# Altium integrated library WE-PD (rev22a).IntLib: 359 symbols (part 2 of 6)
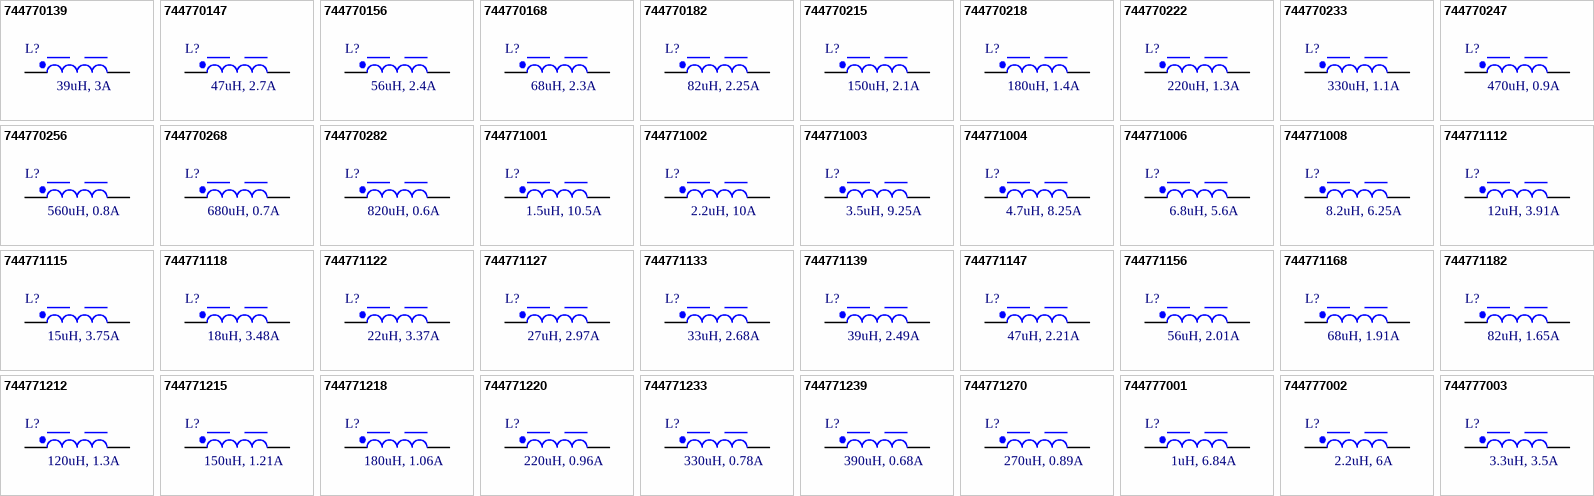
[diagram p9: symbols 744770139 to 744777003]

## 744771168
designator L?, comment 68uH, 1.91A
WE-PD SMT Power Inductor, size 1260, 68uH, 1.91A, 120mOhm; Manufacturer: Wurth Elektronik; Manufacturer Part Number: 744771168; Self Resonant Frequency: 7.6MHz; DC Resistance typ.: 96mOhm; Saturation Current: 2.19A; Type: Standard; ComponentLink1Description: Manufacturer; ComponentLink1URL: http://www.we-online.de; ComponentLink2Description: Datasheet; ComponentLink2URL: https://www.we-online.com/catalog/datasheet/744771168.pdf; Mounting Technology: SMT; Operating Temperature: -40 to +125degC; Packaging: Tape and Reel; DC Resistance max.: 120mOhm; Inductance: 68uH; Rated Current: 1.91A; Size: 1260; Height: 6mm; Length: 12mm; Width: 12mm
footprint WE-PD_1260
pins: 1, 2

## 744771182
designator L?, comment 82uH, 1.65A
WE-PD SMT Power Inductor, size 1260, 82uH, 1.65A, 140mOhm; Manufacturer: Wurth Elektronik; Manufacturer Part Number: 744771182; Self Resonant Frequency: 7.2MHz; DC Resistance typ.: 129mOhm; Saturation Current: 1.88A; Type: Standard; ComponentLink1Description: Manufacturer; ComponentLink1URL: http://www.we-online.de; ComponentLink2Description: Datasheet; ComponentLink2URL: https://www.we-online.com/catalog/datasheet/744771182.pdf; Mounting Technology: SMT; Operating Temperature: -40 to +125degC; Packaging: Tape and Reel; DC Resistance max.: 140mOhm; Inductance: 82uH; Rated Current: 1.65A; Size: 1260; Height: 6mm; Length: 12mm; Width: 12mm
footprint WE-PD_1260
pins: 1, 2

## 744771212
designator L?, comment 120uH, 1.3A
WE-PD SMT Power Inductor, size 1260, 120uH, 1.3A, 170mOhm; Manufacturer: Wurth Elektronik; Manufacturer Part Number: 744771212; Self Resonant Frequency: 5.2MHz; DC Resistance typ.: 159mOhm; Saturation Current: 1.56A; Type: Standard; ComponentLink1Description: Manufacturer; ComponentLink1URL: http://www.we-online.de; ComponentLink2Description: Datasheet; ComponentLink2URL: https://www.we-online.com/catalog/datasheet/744771212.pdf; Mounting Technology: SMT; Operating Temperature: -40 to +125degC; Packaging: Tape and Reel; DC Resistance max.: 170mOhm; Inductance: 120uH; Rated Current: 1.3A; Size: 1260; Height: 6mm; Length: 12mm; Width: 12mm
footprint WE-PD_1260
pins: 1, 2

## 744771215
designator L?, comment 150uH, 1.21A
WE-PD SMT Power Inductor, size 1260, 150uH, 1.21A, 230mOhm; Manufacturer: Wurth Elektronik; Manufacturer Part Number: 744771215; Self Resonant Frequency: 4.4MHz; DC Resistance typ.: 185mOhm; Saturation Current: 1.43A; Type: Standard; ComponentLink1Description: Manufacturer; ComponentLink1URL: http://www.we-online.de; ComponentLink2Description: Datasheet; ComponentLink2URL: https://www.we-online.com/catalog/datasheet/744771215.pdf; Mounting Technology: SMT; Operating Temperature: -40 to +125degC; Packaging: Tape and Reel; DC Resistance max.: 230mOhm; Inductance: 150uH; Rated Current: 1.21A; Size: 1260; Height: 6mm; Length: 12mm; Width: 12mm
footprint WE-PD_1260
pins: 1, 2

## 744771218
designator L?, comment 180uH, 1.06A
WE-PD SMT Power Inductor, size 1260, 180uH, 1.06A, 290mOhm; Manufacturer: Wurth Elektronik; Manufacturer Part Number: 744771218; Self Resonant Frequency: 4.1MHz; DC Resistance typ.: 242mOhm; Saturation Current: 1.24A; Type: Standard; ComponentLink1Description: Manufacturer; ComponentLink1URL: http://www.we-online.de; ComponentLink2Description: Datasheet; ComponentLink2URL: https://www.we-online.com/catalog/datasheet/744771218.pdf; Mounting Technology: SMT; Operating Temperature: -40 to +125degC; Packaging: Tape and Reel; DC Resistance max.: 290mOhm; Inductance: 180uH; Rated Current: 1.06A; Size: 1260; Height: 6mm; Length: 12mm; Width: 12mm
footprint WE-PD_1260
pins: 1, 2

## 744771220
designator L?, comment 220uH, 0.96A
WE-PD SMT Power Inductor, size 1260, 220uH, 0.96A, 400mOhm; Manufacturer: Wurth Elektronik; Manufacturer Part Number: 744771220; Self Resonant Frequency: 3.8MHz; DC Resistance typ.: 290mOhm; Saturation Current: 1.2A; Type: Standard; ComponentLink1Description: Manufacturer; ComponentLink1URL: http://www.we-online.de; ComponentLink2Description: Datasheet; ComponentLink2URL: https://www.we-online.com/catalog/datasheet/744771220.pdf; Mounting Technology: SMT; Operating Temperature: -40 to +125degC; Packaging: Tape and Reel; DC Resistance max.: 400mOhm; Inductance: 220uH; Rated Current: 0.96A; Size: 1260; Height: 6mm; Length: 12mm; Width: 12mm
footprint WE-PD_1260
pins: 1, 2

## 744771233
designator L?, comment 330uH, 0.78A
WE-PD SMT Power Inductor, size 1260, 330uH, 0.78A, 510mOhm; Manufacturer: Wurth Elektronik; Manufacturer Part Number: 744771233; Self Resonant Frequency: 3MHz; DC Resistance typ.: 442mOhm; Saturation Current: 0.97A; Type: Standard; ComponentLink1Description: Manufacturer; ComponentLink1URL: http://www.we-online.de; ComponentLink2Description: Datasheet; ComponentLink2URL: https://www.we-online.com/catalog/datasheet/744771233.pdf; Mounting Technology: SMT; Operating Temperature: -40 to +125degC; Packaging: Tape and Reel; DC Resistance max.: 510mOhm; Inductance: 330uH; Rated Current: 0.78A; Size: 1260; Height: 6mm; Length: 12mm; Width: 12mm
footprint WE-PD_1260
pins: 1, 2

## 744771239
designator L?, comment 390uH, 0.68A
WE-PD SMT Power Inductor, size 1260, 390uH, 0.68A, 690mOhm; Manufacturer: Wurth Elektronik; Manufacturer Part Number: 744771239; Self Resonant Frequency: 2.8MHz; DC Resistance typ.: 590mOhm; Saturation Current: 0.85A; Type: Standard; ComponentLink1Description: Manufacturer; ComponentLink1URL: http://www.we-online.de; ComponentLink2Description: Datasheet; ComponentLink2URL: https://www.we-online.com/catalog/datasheet/744771239.pdf; Mounting Technology: SMT; Operating Temperature: -40 to +125degC; Packaging: Tape and Reel; DC Resistance max.: 690mOhm; Inductance: 390uH; Rated Current: 0.68A; Size: 1260; Height: 6mm; Length: 12mm; Width: 12mm
footprint WE-PD_1260
pins: 1, 2

## 744771270
designator L?, comment 270uH, 0.89A
WE-PD SMT Power Inductor, size 1260, 270uH, 0.89A, 460mOhm; Manufacturer: Wurth Elektronik; Manufacturer Part Number: 744771270; Self Resonant Frequency: 3.4MHz; DC Resistance typ.: 338mOhm; Saturation Current: 1A; Type: Standard; ComponentLink1Description: Manufacturer; ComponentLink1URL: http://www.we-online.de; ComponentLink2Description: Datasheet; ComponentLink2URL: https://www.we-online.com/catalog/datasheet/744771270.pdf; Mounting Technology: SMT; Operating Temperature: -40 to +125degC; Packaging: Tape and Reel; DC Resistance max.: 460mOhm; Inductance: 270uH; Rated Current: 0.89A; Size: 1260; Height: 6mm; Length: 12mm; Width: 12mm
footprint WE-PD_1260
pins: 1, 2

## 744777001
designator L?, comment 1uH, 6.84A
WE-PD SMT Power Inductor, size 7345, 1uH, 6.84A, 10mOhm; Manufacturer: Wurth Elektronik; Manufacturer Part Number: 744777001; Self Resonant Frequency: 100MHz; DC Resistance typ.: 8.4mOhm; Saturation Current: 10.2A; Type: Standard; ComponentLink1Description: Manufacturer; ComponentLink1URL: http://www.we-online.de; ComponentLink2Description: Datasheet; ComponentLink2URL: https://www.we-online.com/catalog/datasheet/744777001.pdf; Mounting Technology: SMT; Operating Temperature: -40 to +125degC; Packaging: Tape and Reel; DC Resistance max.: 10mOhm; Inductance: 1uH; Rated Current: 6.84A; Size: 7345; Height: 4.5mm; Length: 7.3mm; Width: 7.3mm
footprint WE-PD_7345
pins: 1, 2

## 744777002
designator L?, comment 2.2uH, 6A
WE-PD SMT Power Inductor, size 7345, 2.2uH, 6A, 20mOhm; Manufacturer: Wurth Elektronik; Manufacturer Part Number: 744777002; Self Resonant Frequency: 60MHz; DC Resistance typ.: 13mOhm; Saturation Current: 6.5A; Type: Standard; ComponentLink1Description: Manufacturer; ComponentLink1URL: http://www.we-online.de; ComponentLink2Description: Datasheet; ComponentLink2URL: https://www.we-online.com/catalog/datasheet/744777002.pdf; Mounting Technology: SMT; Operating Temperature: -40 to +125degC; Packaging: Tape and Reel; DC Resistance max.: 20mOhm; Inductance: 2.2uH; Rated Current: 6A; Size: 7345; Height: 4.5mm; Length: 7.3mm; Width: 7.3mm
footprint WE-PD_7345
pins: 1, 2

## 744777003
designator L?, comment 3.3uH, 3.5A
WE-PD SMT Power Inductor, size 7345, 3.3uH, 3.5A, 30mOhm; Manufacturer: Wurth Elektronik; Manufacturer Part Number: 744777003; Self Resonant Frequency: 55MHz; DC Resistance typ.: 25mOhm; Saturation Current: 4.6A; Type: Standard; ComponentLink1Description: Manufacturer; ComponentLink1URL: http://www.we-online.de; ComponentLink2Description: Datasheet; ComponentLink2URL: https://www.we-online.com/catalog/datasheet/744777003.pdf; Mounting Technology: SMT; Operating Temperature: -40 to +125degC; Packaging: Tape and Reel; DC Resistance max.: 30mOhm; Inductance: 3.3uH; Rated Current: 3.5A; Size: 7345; Height: 4.5mm; Length: 7.3mm; Width: 7.3mm
footprint WE-PD_7345
pins: 1, 2

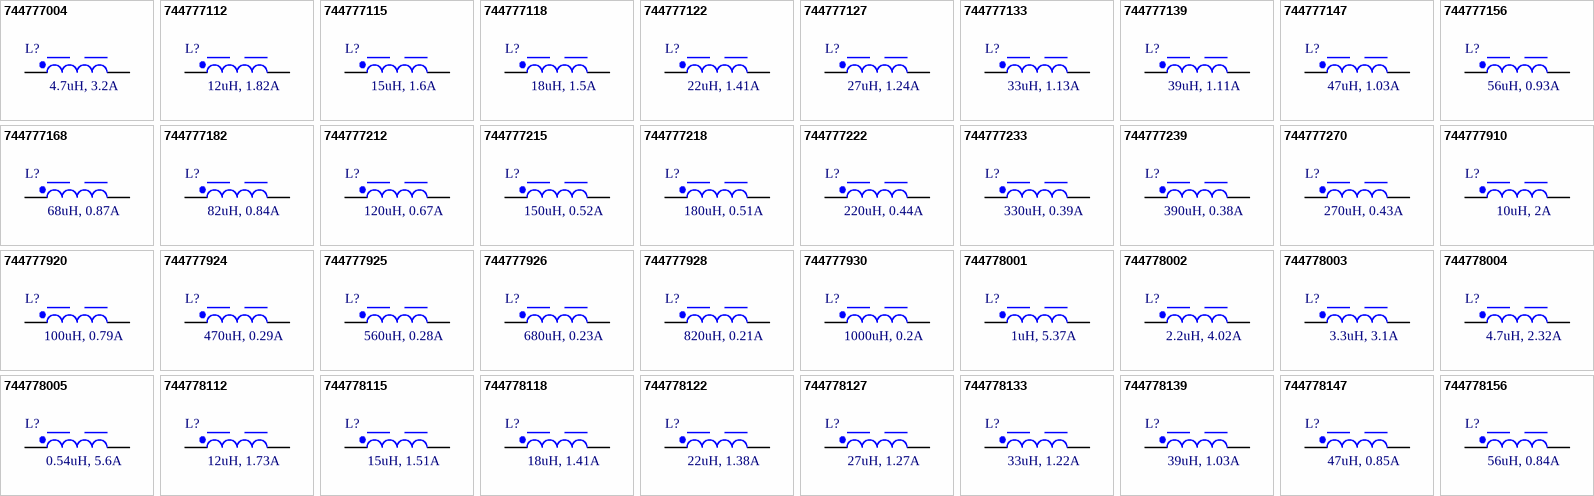
[diagram p2: symbols 744777004 to 744778156]

## 744777004
designator L?, comment 4.7uH, 3.2A
WE-PD SMT Power Inductor, size 7345, 4.7uH, 3.2A, 40mOhm; Manufacturer: Wurth Elektronik; Manufacturer Part Number: 744777004; Self Resonant Frequency: 37MHz; DC Resistance typ.: 25mOhm; Saturation Current: 4A; Type: Standard; ComponentLink1Description: Manufacturer; ComponentLink1URL: http://www.we-online.de; ComponentLink2Description: Datasheet; ComponentLink2URL: https://www.we-online.com/catalog/datasheet/744777004.pdf; Mounting Technology: SMT; Operating Temperature: -40 to +125degC; Packaging: Tape and Reel; DC Resistance max.: 40mOhm; Inductance: 4.7uH; Rated Current: 3.2A; Size: 7345; Height: 4.5mm; Length: 7.3mm; Width: 7.3mm
footprint WE-PD_7345
pins: 1, 2

## 744777112
designator L?, comment 12uH, 1.82A
WE-PD SMT Power Inductor, size 7345, 12uH, 1.82A, 58mOhm; Manufacturer: Wurth Elektronik; Manufacturer Part Number: 744777112; Self Resonant Frequency: 23MHz; DC Resistance typ.: 54mOhm; Saturation Current: 2.4A; Type: Standard; ComponentLink1Description: Manufacturer; ComponentLink1URL: http://www.we-online.de; ComponentLink2Description: Datasheet; ComponentLink2URL: https://www.we-online.com/catalog/datasheet/744777112.pdf; Mounting Technology: SMT; Operating Temperature: -40 to +125degC; Packaging: Tape and Reel; DC Resistance max.: 58mOhm; Inductance: 12uH; Rated Current: 1.82A; Size: 7345; Height: 4.5mm; Length: 7.3mm; Width: 7.3mm
footprint WE-PD_7345
pins: 1, 2

## 744777115
designator L?, comment 15uH, 1.6A
WE-PD SMT Power Inductor, size 7345, 15uH, 1.6A, 81mOhm; Manufacturer: Wurth Elektronik; Manufacturer Part Number: 744777115; Self Resonant Frequency: 19.5MHz; DC Resistance typ.: 70mOhm; Saturation Current: 2.2A; Type: Standard; ComponentLink1Description: Manufacturer; ComponentLink1URL: http://www.we-online.de; ComponentLink2Description: Datasheet; ComponentLink2URL: https://www.we-online.com/catalog/datasheet/744777115.pdf; Mounting Technology: SMT; Operating Temperature: -40 to +125degC; Packaging: Tape and Reel; DC Resistance max.: 81mOhm; Inductance: 15uH; Rated Current: 1.6A; Size: 7345; Height: 4.5mm; Length: 7.3mm; Width: 7.3mm
footprint WE-PD_7345
pins: 1, 2

## 744777118
designator L?, comment 18uH, 1.5A
WE-PD SMT Power Inductor, size 7345, 18uH, 1.5A, 91mOhm; Manufacturer: Wurth Elektronik; Manufacturer Part Number: 744777118; Self Resonant Frequency: 19MHz; DC Resistance typ.: 80mOhm; Saturation Current: 2.05A; Type: Standard; ComponentLink1Description: Manufacturer; ComponentLink1URL: http://www.we-online.de; ComponentLink2Description: Datasheet; ComponentLink2URL: https://www.we-online.com/catalog/datasheet/744777118.pdf; Mounting Technology: SMT; Operating Temperature: -40 to +125degC; Packaging: Tape and Reel; DC Resistance max.: 91mOhm; Inductance: 18uH; Rated Current: 1.5A; Size: 7345; Height: 4.5mm; Length: 7.3mm; Width: 7.3mm
footprint WE-PD_7345
pins: 1, 2

## 744777122
designator L?, comment 22uH, 1.41A
WE-PD SMT Power Inductor, size 7345, 22uH, 1.41A, 110mOhm; Manufacturer: Wurth Elektronik; Manufacturer Part Number: 744777122; Self Resonant Frequency: 17MHz; DC Resistance typ.: 90mOhm; Saturation Current: 1.7A; Type: Standard; ComponentLink1Description: Manufacturer; ComponentLink1URL: http://www.we-online.de; ComponentLink2Description: Datasheet; ComponentLink2URL: https://www.we-online.com/catalog/datasheet/744777122.pdf; Mounting Technology: SMT; Operating Temperature: -40 to +125degC; Packaging: Tape and Reel; DC Resistance max.: 110mOhm; Inductance: 22uH; Rated Current: 1.41A; Size: 7345; Height: 4.5mm; Length: 7.3mm; Width: 7.3mm
footprint WE-PD_7345
pins: 1, 2

## 744777127
designator L?, comment 27uH, 1.24A
WE-PD SMT Power Inductor, size 7345, 27uH, 1.24A, 150mOhm; Manufacturer: Wurth Elektronik; Manufacturer Part Number: 744777127; Self Resonant Frequency: 15MHz; DC Resistance typ.: 117mOhm; Saturation Current: 1.55A; Type: Standard; ComponentLink1Description: Manufacturer; ComponentLink1URL: http://www.we-online.de; ComponentLink2Description: Datasheet; ComponentLink2URL: https://www.we-online.com/catalog/datasheet/744777127.pdf; Mounting Technology: SMT; Operating Temperature: -40 to +125degC; Packaging: Tape and Reel; DC Resistance max.: 150mOhm; Inductance: 27uH; Rated Current: 1.24A; Size: 7345; Height: 4.5mm; Length: 7.3mm; Width: 7.3mm
footprint WE-PD_7345
pins: 1, 2

## 744777133
designator L?, comment 33uH, 1.13A
WE-PD SMT Power Inductor, size 7345, 33uH, 1.13A, 170mOhm; Manufacturer: Wurth Elektronik; Manufacturer Part Number: 744777133; Self Resonant Frequency: 13MHz; DC Resistance typ.: 140mOhm; Saturation Current: 1.4A; Type: Standard; ComponentLink1Description: Manufacturer; ComponentLink1URL: http://www.we-online.de; ComponentLink2Description: Datasheet; ComponentLink2URL: https://www.we-online.com/catalog/datasheet/744777133.pdf; Mounting Technology: SMT; Operating Temperature: -40 to +125degC; Packaging: Tape and Reel; DC Resistance max.: 170mOhm; Inductance: 33uH; Rated Current: 1.13A; Size: 7345; Height: 4.5mm; Length: 7.3mm; Width: 7.3mm
footprint WE-PD_7345
pins: 1, 2

## 744777139
designator L?, comment 39uH, 1.11A
WE-PD SMT Power Inductor, size 7345, 39uH, 1.11A, 230mOhm; Manufacturer: Wurth Elektronik; Manufacturer Part Number: 744777139; Self Resonant Frequency: 12MHz; DC Resistance typ.: 145mOhm; Saturation Current: 1.23A; Type: Standard; ComponentLink1Description: Manufacturer; ComponentLink1URL: http://www.we-online.de; ComponentLink2Description: Datasheet; ComponentLink2URL: https://www.we-online.com/catalog/datasheet/744777139.pdf; Mounting Technology: SMT; Operating Temperature: -40 to +125degC; Packaging: Tape and Reel; DC Resistance max.: 230mOhm; Inductance: 39uH; Rated Current: 1.11A; Size: 7345; Height: 4.5mm; Length: 7.3mm; Width: 7.3mm
footprint WE-PD_7345
pins: 1, 2

## 744777147
designator L?, comment 47uH, 1.03A
WE-PD SMT Power Inductor, size 7345, 47uH, 1.03A, 260mOhm; Manufacturer: Wurth Elektronik; Manufacturer Part Number: 744777147; Self Resonant Frequency: 10.5MHz; DC Resistance typ.: 170mOhm; Saturation Current: 1.1A; Type: Standard; ComponentLink1Description: Manufacturer; ComponentLink1URL: http://www.we-online.de; ComponentLink2Description: Datasheet; ComponentLink2URL: https://www.we-online.com/catalog/datasheet/744777147.pdf; Mounting Technology: SMT; Operating Temperature: -40 to +125degC; Packaging: Tape and Reel; DC Resistance max.: 260mOhm; Inductance: 47uH; Rated Current: 1.03A; Size: 7345; Height: 4.5mm; Length: 7.3mm; Width: 7.3mm
footprint WE-PD_7345
pins: 1, 2

## 744777156
designator L?, comment 56uH, 0.93A
WE-PD SMT Power Inductor, size 7345, 56uH, 0.93A, 350mOhm; Manufacturer: Wurth Elektronik; Manufacturer Part Number: 744777156; Self Resonant Frequency: 10MHz; DC Resistance typ.: 210mOhm; Saturation Current: 1.05A; Type: Standard; ComponentLink1Description: Manufacturer; ComponentLink1URL: http://www.we-online.de; ComponentLink2Description: Datasheet; ComponentLink2URL: https://www.we-online.com/catalog/datasheet/744777156.pdf; Mounting Technology: SMT; Operating Temperature: -40 to +125degC; Packaging: Tape and Reel; DC Resistance max.: 350mOhm; Inductance: 56uH; Rated Current: 0.93A; Size: 7345; Height: 4.5mm; Length: 7.3mm; Width: 7.3mm
footprint WE-PD_7345
pins: 1, 2

## 744777168
designator L?, comment 68uH, 0.87A
WE-PD SMT Power Inductor, size 7345, 68uH, 0.87A, 380mOhm; Manufacturer: Wurth Elektronik; Manufacturer Part Number: 744777168; Self Resonant Frequency: 9MHz; DC Resistance typ.: 240mOhm; Saturation Current: 0.95A; Type: Standard; ComponentLink1Description: Manufacturer; ComponentLink1URL: http://www.we-online.de; ComponentLink2Description: Datasheet; ComponentLink2URL: https://www.we-online.com/catalog/datasheet/744777168.pdf; Mounting Technology: SMT; Operating Temperature: -40 to +125degC; Packaging: Tape and Reel; DC Resistance max.: 380mOhm; Inductance: 68uH; Rated Current: 0.87A; Size: 7345; Height: 4.5mm; Length: 7.3mm; Width: 7.3mm
footprint WE-PD_7345
pins: 1, 2

## 744777182
designator L?, comment 82uH, 0.84A
WE-PD SMT Power Inductor, size 7345, 82uH, 0.84A, 430mOhm; Manufacturer: Wurth Elektronik; Manufacturer Part Number: 744777182; Self Resonant Frequency: 8MHz; DC Resistance typ.: 260mOhm; Saturation Current: 0.9A; Type: Standard; ComponentLink1Description: Manufacturer; ComponentLink1URL: http://www.we-online.de; ComponentLink2Description: Datasheet; ComponentLink2URL: https://www.we-online.com/catalog/datasheet/744777182.pdf; Mounting Technology: SMT; Operating Temperature: -40 to +125degC; Packaging: Tape and Reel; DC Resistance max.: 430mOhm; Inductance: 82uH; Rated Current: 0.84A; Size: 7345; Height: 4.5mm; Length: 7.3mm; Width: 7.3mm
footprint WE-PD_7345
pins: 1, 2

## 744777212
designator L?, comment 120uH, 0.67A
WE-PD SMT Power Inductor, size 7345, 120uH, 0.67A, 660mOhm; Manufacturer: Wurth Elektronik; Manufacturer Part Number: 744777212; Self Resonant Frequency: 6.7MHz; DC Resistance typ.: 400mOhm; Saturation Current: 0.7A; Type: Standard; ComponentLink1Description: Manufacturer; ComponentLink1URL: http://www.we-online.de; ComponentLink2Description: Datasheet; ComponentLink2URL: https://www.we-online.com/catalog/datasheet/744777212.pdf; Mounting Technology: SMT; Operating Temperature: -40 to +125degC; Packaging: Tape and Reel; DC Resistance max.: 660mOhm; Inductance: 120uH; Rated Current: 0.67A; Size: 7345; Height: 4.5mm; Length: 7.3mm; Width: 7.3mm
footprint WE-PD_7345
pins: 1, 2

## 744777215
designator L?, comment 150uH, 0.52A
WE-PD SMT Power Inductor, size 7345, 150uH, 0.52A, 880mOhm; Manufacturer: Wurth Elektronik; Manufacturer Part Number: 744777215; Self Resonant Frequency: 6MHz; DC Resistance typ.: 660mOhm; Saturation Current: 0.63A; Type: Standard; ComponentLink1Description: Manufacturer; ComponentLink1URL: http://www.we-online.de; ComponentLink2Description: Datasheet; ComponentLink2URL: https://www.we-online.com/catalog/datasheet/744777215.pdf; Mounting Technology: SMT; Operating Temperature: -40 to +125degC; Packaging: Tape and Reel; DC Resistance max.: 880mOhm; Inductance: 150uH; Rated Current: 0.52A; Size: 7345; Height: 4.5mm; Length: 7.3mm; Width: 7.3mm
footprint WE-PD_7345
pins: 1, 2

## 744777218
designator L?, comment 180uH, 0.51A
WE-PD SMT Power Inductor, size 7345, 180uH, 0.51A, 980mOhm; Manufacturer: Wurth Elektronik; Manufacturer Part Number: 744777218; Self Resonant Frequency: 5.3MHz; DC Resistance typ.: 680mOhm; Saturation Current: 0.56A; Type: Standard; ComponentLink1Description: Manufacturer; ComponentLink1URL: http://www.we-online.de; ComponentLink2Description: Datasheet; ComponentLink2URL: https://www.we-online.com/catalog/datasheet/744777218.pdf; Mounting Technology: SMT; Operating Temperature: -40 to +125degC; Packaging: Tape and Reel; DC Resistance max.: 980mOhm; Inductance: 180uH; Rated Current: 0.51A; Size: 7345; Height: 4.5mm; Length: 7.3mm; Width: 7.3mm
footprint WE-PD_7345
pins: 1, 2

## 744777222
designator L?, comment 220uH, 0.44A
WE-PD SMT Power Inductor, size 7345, 220uH, 0.44A, 1170mOhm; Manufacturer: Wurth Elektronik; Manufacturer Part Number: 744777222; Self Resonant Frequency: 5MHz; DC Resistance typ.: 920mOhm; Saturation Current: 0.54A; Type: Standard; ComponentLink1Description: Manufacturer; ComponentLink1URL: http://www.we-online.de; ComponentLink2Description: Datasheet; ComponentLink2URL: https://www.we-online.com/catalog/datasheet/744777222.pdf; Mounting Technology: SMT; Operating Temperature: -40 to +125degC; Packaging: Tape and Reel; DC Resistance max.: 1170mOhm; Inductance: 220uH; Rated Current: 0.44A; Size: 7345; Height: 4.5mm; Length: 7.3mm; Width: 7.3mm
footprint WE-PD_7345
pins: 1, 2

## 744777233
designator L?, comment 330uH, 0.39A
WE-PD SMT Power Inductor, size 7345, 330uH, 0.39A, 1860mOhm; Manufacturer: Wurth Elektronik; Manufacturer Part Number: 744777233; Self Resonant Frequency: 4MHz; DC Resistance typ.: 1150mOhm; Saturation Current: 0.45A; Type: Standard; ComponentLink1Description: Manufacturer; ComponentLink1URL: http://www.we-online.de; ComponentLink2Description: Datasheet; ComponentLink2URL: https://www.we-online.com/catalog/datasheet/744777233.pdf; Mounting Technology: SMT; Operating Temperature: -40 to +125degC; Packaging: Tape and Reel; DC Resistance max.: 1860mOhm; Inductance: 330uH; Rated Current: 0.39A; Size: 7345; Height: 4.5mm; Length: 7.3mm; Width: 7.3mm
footprint WE-PD_7345
pins: 1, 2

## 744777239
designator L?, comment 390uH, 0.38A
WE-PD SMT Power Inductor, size 7345, 390uH, 0.38A, 2850mOhm; Manufacturer: Wurth Elektronik; Manufacturer Part Number: 744777239; Self Resonant Frequency: 3.8MHz; DC Resistance typ.: 1250mOhm; Saturation Current: 0.42A; Type: Standard; ComponentLink1Description: Manufacturer; ComponentLink1URL: http://www.we-online.de; ComponentLink2Description: Datasheet; ComponentLink2URL: https://www.we-online.com/catalog/datasheet/744777239.pdf; Mounting Technology: SMT; Operating Temperature: -40 to +125degC; Packaging: Tape and Reel; DC Resistance max.: 2850mOhm; Inductance: 390uH; Rated Current: 0.38A; Size: 7345; Height: 4.5mm; Length: 7.3mm; Width: 7.3mm
footprint WE-PD_7345
pins: 1, 2

## 744777270
designator L?, comment 270uH, 0.43A
WE-PD SMT Power Inductor, size 7345, 270uH, 0.43A, 1640mOhm; Manufacturer: Wurth Elektronik; Manufacturer Part Number: 744777270; Self Resonant Frequency: 4.3MHz; DC Resistance typ.: 970mOhm; Saturation Current: 0.48A; Type: Standard; ComponentLink1Description: Manufacturer; ComponentLink1URL: http://www.we-online.de; ComponentLink2Description: Datasheet; ComponentLink2URL: https://www.we-online.com/catalog/datasheet/744777270.pdf; Mounting Technology: SMT; Operating Temperature: -40 to +125degC; Packaging: Tape and Reel; DC Resistance max.: 1640mOhm; Inductance: 270uH; Rated Current: 0.43A; Size: 7345; Height: 4.5mm; Length: 7.3mm; Width: 7.3mm
footprint WE-PD_7345
pins: 1, 2

## 744777910
designator L?, comment 10uH, 2A
WE-PD SMT Power Inductor, size 7345R, 10uH, 2A, 49mOhm; Manufacturer: Wurth Elektronik; Manufacturer Part Number: 744777910; Self Resonant Frequency: 26MHz; DC Resistance typ.: 45mOhm; Saturation Current: 2.6A; Type: Robust; ComponentLink1Description: Manufacturer; ComponentLink1URL: http://www.we-online.de; ComponentLink2Description: Datasheet; ComponentLink2URL: https://www.we-online.com/catalog/datasheet/744777910.pdf; Mounting Technology: SMT; Operating Temperature: -40 to +125degC; Packaging: Tape and Reel; DC Resistance max.: 49mOhm; Inductance: 10uH; Rated Current: 2A; Size: 7345R; Height: 4.5mm; Length: 7.3mm; Width: 7.3mm
footprint WE-PD_7345R
pins: 1, 2

## 744777920
designator L?, comment 100uH, 0.79A
WE-PD SMT Power Inductor, size 7345R, 100uH, 0.79A, 380mOhm; Manufacturer: Wurth Elektronik; Manufacturer Part Number: 744777920; Self Resonant Frequency: 7.5MHz; DC Resistance typ.: 290mOhm; Saturation Current: 0.75A; Type: Robust; ComponentLink1Description: Manufacturer; ComponentLink1URL: http://www.we-online.de; ComponentLink2Description: Datasheet; ComponentLink2URL: https://www.we-online.com/catalog/datasheet/744777920.pdf; Mounting Technology: SMT; Operating Temperature: -40 to +125degC; Packaging: Tape and Reel; DC Resistance max.: 380mOhm; Inductance: 100uH; Rated Current: 0.79A; Size: 7345R; Height: 4.5mm; Length: 7.3mm; Width: 7.3mm
footprint WE-PD_7345R
pins: 1, 2

## 744777924
designator L?, comment 470uH, 0.29A
WE-PD SMT Power Inductor, size 7345R, 470uH, 0.29A, 3010mOhm; Manufacturer: Wurth Elektronik; Manufacturer Part Number: 744777924; Self Resonant Frequency: 3.2MHz; DC Resistance typ.: 1600mOhm; Saturation Current: 0.34A; Type: Robust; ComponentLink1Description: Manufacturer; ComponentLink1URL: http://www.we-online.de; ComponentLink2Description: Datasheet; ComponentLink2URL: https://www.we-online.com/catalog/datasheet/744777924.pdf; Mounting Technology: SMT; Operating Temperature: -40 to +125degC; Packaging: Tape and Reel; DC Resistance max.: 3010mOhm; Inductance: 470uH; Rated Current: 0.29A; Size: 7345R; Height: 4.5mm; Length: 7.3mm; Width: 7.3mm
footprint WE-PD_7345R
pins: 1, 2

## 744777925
designator L?, comment 560uH, 0.28A
WE-PD SMT Power Inductor, size 7345R, 560uH, 0.28A, 3620mOhm; Manufacturer: Wurth Elektronik; Manufacturer Part Number: 744777925; Self Resonant Frequency: 3MHz; DC Resistance typ.: 1720mOhm; Saturation Current: 0.31A; Type: Robust; ComponentLink1Description: Manufacturer; ComponentLink1URL: http://www.we-online.de; ComponentLink2Description: Datasheet; ComponentLink2URL: https://www.we-online.com/catalog/datasheet/744777925.pdf; Mounting Technology: SMT; Operating Temperature: -40 to +125degC; Packaging: Tape and Reel; DC Resistance max.: 3620mOhm; Inductance: 560uH; Rated Current: 0.28A; Size: 7345R; Height: 4.5mm; Length: 7.3mm; Width: 7.3mm
footprint WE-PD_7345R
pins: 1, 2

## 744777926
designator L?, comment 680uH, 0.23A
WE-PD SMT Power Inductor, size 7345R, 680uH, 0.23A, 4630mOhm; Manufacturer: Wurth Elektronik; Manufacturer Part Number: 744777926; Self Resonant Frequency: 2.7MHz; DC Resistance typ.: 2600mOhm; Saturation Current: 0.28A; Type: Robust; ComponentLink1Description: Manufacturer; ComponentLink1URL: http://www.we-online.de; ComponentLink2Description: Datasheet; ComponentLink2URL: https://www.we-online.com/catalog/datasheet/744777926.pdf; Mounting Technology: SMT; Operating Temperature: -40 to +125degC; Packaging: Tape and Reel; DC Resistance max.: 4630mOhm; Inductance: 680uH; Rated Current: 0.23A; Size: 7345R; Height: 4.5mm; Length: 7.3mm; Width: 7.3mm
footprint WE-PD_7345R
pins: 1, 2

## 744777928
designator L?, comment 820uH, 0.21A
WE-PD SMT Power Inductor, size 7345R, 820uH, 0.21A, 5200mOhm; Manufacturer: Wurth Elektronik; Manufacturer Part Number: 744777928; Self Resonant Frequency: 2.5MHz; DC Resistance typ.: 2960mOhm; Saturation Current: 0.26A; Type: Robust; ComponentLink1Description: Manufacturer; ComponentLink1URL: http://www.we-online.de; ComponentLink2Description: Datasheet; ComponentLink2URL: https://www.we-online.com/catalog/datasheet/744777928.pdf; Mounting Technology: SMT; Operating Temperature: -40 to +125degC; Packaging: Tape and Reel; DC Resistance max.: 5200mOhm; Inductance: 820uH; Rated Current: 0.21A; Size: 7345R; Height: 4.5mm; Length: 7.3mm; Width: 7.3mm
footprint WE-PD_7345R
pins: 1, 2

## 744777930
designator L?, comment 1000uH, 0.2A
WE-PD SMT Power Inductor, size 7345R, 1000uH, 0.2A, 6000mOhm; Manufacturer: Wurth Elektronik; Manufacturer Part Number: 744777930; Self Resonant Frequency: 2.2MHz; DC Resistance typ.: 3270mOhm; Saturation Current: 0.25A; Type: Robust; ComponentLink1Description: Manufacturer; ComponentLink1URL: http://www.we-online.de; ComponentLink2Description: Datasheet; ComponentLink2URL: https://www.we-online.com/catalog/datasheet/744777930.pdf; Mounting Technology: SMT; Operating Temperature: -40 to +125degC; Packaging: Tape and Reel; DC Resistance max.: 6000mOhm; Inductance: 1000uH; Rated Current: 0.2A; Size: 7345R; Height: 4.5mm; Length: 7.3mm; Width: 7.3mm
footprint WE-PD_7345R
pins: 1, 2

## 744778001
designator L?, comment 1uH, 5.37A
WE-PD SMT Power Inductor, size 7332, 1uH, 5.37A, 12mOhm; Manufacturer: Wurth Elektronik; Manufacturer Part Number: 744778001; Self Resonant Frequency: 115MHz; DC Resistance typ.: 9mOhm; Saturation Current: 6.4A; Type: Standard; ComponentLink1Description: Manufacturer; ComponentLink1URL: http://www.we-online.de; ComponentLink2Description: Datasheet; ComponentLink2URL: https://www.we-online.com/catalog/datasheet/744778001.pdf; Mounting Technology: SMT; Operating Temperature: -40 to +125degC; Packaging: Tape and Reel; DC Resistance max.: 12mOhm; Inductance: 1uH; Rated Current: 5.37A; Size: 7332; Height: 3.2mm; Length: 7.3mm; Width: 7.3mm
footprint WE-PD_7332
pins: 1, 2

## 744778002
designator L?, comment 2.2uH, 4.02A
WE-PD SMT Power Inductor, size 7332, 2.2uH, 4.02A, 20mOhm; Manufacturer: Wurth Elektronik; Manufacturer Part Number: 744778002; Self Resonant Frequency: 67MHz; DC Resistance typ.: 14mOhm; Saturation Current: 4.8A; Type: Standard; ComponentLink1Description: Manufacturer; ComponentLink1URL: http://www.we-online.de; ComponentLink2Description: Datasheet; ComponentLink2URL: https://www.we-online.com/catalog/datasheet/744778002.pdf; Mounting Technology: SMT; Operating Temperature: -40 to +125degC; Packaging: Tape and Reel; DC Resistance max.: 20mOhm; Inductance: 2.2uH; Rated Current: 4.02A; Size: 7332; Height: 3.2mm; Length: 7.3mm; Width: 7.3mm
footprint WE-PD_7332
pins: 1, 2

## 744778003
designator L?, comment 3.3uH, 3.1A
WE-PD SMT Power Inductor, size 7332, 3.3uH, 3.1A, 32mOhm; Manufacturer: Wurth Elektronik; Manufacturer Part Number: 744778003; Self Resonant Frequency: 61MHz; DC Resistance typ.: 24mOhm; Saturation Current: 4.1A; Type: Standard; ComponentLink1Description: Manufacturer; ComponentLink1URL: http://www.we-online.de; ComponentLink2Description: Datasheet; ComponentLink2URL: https://www.we-online.com/catalog/datasheet/744778003.pdf; Mounting Technology: SMT; Operating Temperature: -40 to +125degC; Packaging: Tape and Reel; DC Resistance max.: 32mOhm; Inductance: 3.3uH; Rated Current: 3.1A; Size: 7332; Height: 3.2mm; Length: 7.3mm; Width: 7.3mm
footprint WE-PD_7332
pins: 1, 2

## 744778004
designator L?, comment 4.7uH, 2.32A
WE-PD SMT Power Inductor, size 7332, 4.7uH, 2.32A, 60mOhm; Manufacturer: Wurth Elektronik; Manufacturer Part Number: 744778004; Self Resonant Frequency: 45MHz; DC Resistance typ.: 42mOhm; Saturation Current: 4.2A; Type: Standard; ComponentLink1Description: Manufacturer; ComponentLink1URL: http://www.we-online.de; ComponentLink2Description: Datasheet; ComponentLink2URL: https://www.we-online.com/catalog/datasheet/744778004.pdf; Mounting Technology: SMT; Operating Temperature: -40 to +125degC; Packaging: Tape and Reel; DC Resistance max.: 60mOhm; Inductance: 4.7uH; Rated Current: 2.32A; Size: 7332; Height: 3.2mm; Length: 7.3mm; Width: 7.3mm
footprint WE-PD_7332
pins: 1, 2

## 744778005
designator L?, comment 0.54uH, 5.6A
WE-PD SMT Power Inductor, size 7332, 0.54uH, 5.6A, 8.5mOhm; Manufacturer: Wurth Elektronik; Manufacturer Part Number: 744778005; Self Resonant Frequency: 155MHz; DC Resistance typ.: 7.2mOhm; Saturation Current: 9A; Type: Standard; ComponentLink1Description: Manufacturer; ComponentLink1URL: http://www.we-online.de; ComponentLink2Description: Datasheet; ComponentLink2URL: https://www.we-online.com/catalog/datasheet/744778005.pdf; Mounting Technology: SMT; Operating Temperature: -40 to +125degC; Packaging: Tape and Reel; DC Resistance max.: 8.5mOhm; Inductance: 0.54uH; Rated Current: 5.6A; Size: 7332; Height: 3.2mm; Length: 7.3mm; Width: 7.3mm
footprint WE-PD_7332
pins: 1, 2

## 744778112
designator L?, comment 12uH, 1.73A
WE-PD SMT Power Inductor, size 7332, 12uH, 1.73A, 98mOhm; Manufacturer: Wurth Elektronik; Manufacturer Part Number: 744778112; Self Resonant Frequency: 27MHz; DC Resistance typ.: 76mOhm; Saturation Current: 2.15A; Type: Standard; ComponentLink1Description: Manufacturer; ComponentLink1URL: http://www.we-online.de; ComponentLink2Description: Datasheet; ComponentLink2URL: https://www.we-online.com/catalog/datasheet/744778112.pdf; Mounting Technology: SMT; Operating Temperature: -40 to +125degC; Packaging: Tape and Reel; DC Resistance max.: 98mOhm; Inductance: 12uH; Rated Current: 1.73A; Size: 7332; Height: 3.2mm; Length: 7.3mm; Width: 7.3mm
footprint WE-PD_7332
pins: 1, 2

## 744778115
designator L?, comment 15uH, 1.51A
WE-PD SMT Power Inductor, size 7332, 15uH, 1.51A, 130mOhm; Manufacturer: Wurth Elektronik; Manufacturer Part Number: 744778115; Self Resonant Frequency: 26MHz; DC Resistance typ.: 100mOhm; Saturation Current: 1.75A; Type: Standard; ComponentLink1Description: Manufacturer; ComponentLink1URL: http://www.we-online.de; ComponentLink2Description: Datasheet; ComponentLink2URL: https://www.we-online.com/catalog/datasheet/744778115.pdf; Mounting Technology: SMT; Operating Temperature: -40 to +125degC; Packaging: Tape and Reel; DC Resistance max.: 130mOhm; Inductance: 15uH; Rated Current: 1.51A; Size: 7332; Height: 3.2mm; Length: 7.3mm; Width: 7.3mm
footprint WE-PD_7332
pins: 1, 2

## 744778118
designator L?, comment 18uH, 1.41A
WE-PD SMT Power Inductor, size 7332, 18uH, 1.41A, 140mOhm; Manufacturer: Wurth Elektronik; Manufacturer Part Number: 744778118; Self Resonant Frequency: 24MHz; DC Resistance typ.: 114mOhm; Saturation Current: 1.7A; Type: Standard; ComponentLink1Description: Manufacturer; ComponentLink1URL: http://www.we-online.de; ComponentLink2Description: Datasheet; ComponentLink2URL: https://www.we-online.com/catalog/datasheet/744778118.pdf; Mounting Technology: SMT; Operating Temperature: -40 to +125degC; Packaging: Tape and Reel; DC Resistance max.: 140mOhm; Inductance: 18uH; Rated Current: 1.41A; Size: 7332; Height: 3.2mm; Length: 7.3mm; Width: 7.3mm
footprint WE-PD_7332
pins: 1, 2

## 744778122
designator L?, comment 22uH, 1.38A
WE-PD SMT Power Inductor, size 7332, 22uH, 1.38A, 190mOhm; Manufacturer: Wurth Elektronik; Manufacturer Part Number: 744778122; Self Resonant Frequency: 20MHz; DC Resistance typ.: 119mOhm; Saturation Current: 1.4A; Type: Standard; ComponentLink1Description: Manufacturer; ComponentLink1URL: http://www.we-online.de; ComponentLink2Description: Datasheet; ComponentLink2URL: https://www.we-online.com/catalog/datasheet/744778122.pdf; Mounting Technology: SMT; Operating Temperature: -40 to +125degC; Packaging: Tape and Reel; DC Resistance max.: 190mOhm; Inductance: 22uH; Rated Current: 1.38A; Size: 7332; Height: 3.2mm; Length: 7.3mm; Width: 7.3mm
footprint WE-PD_7332
pins: 1, 2

## 744778127
designator L?, comment 27uH, 1.27A
WE-PD SMT Power Inductor, size 7332, 27uH, 1.27A, 240mOhm; Manufacturer: Wurth Elektronik; Manufacturer Part Number: 744778127; Self Resonant Frequency: 18MHz; DC Resistance typ.: 140mOhm; Saturation Current: 1.3A; Type: Standard; ComponentLink1Description: Manufacturer; ComponentLink1URL: http://www.we-online.de; ComponentLink2Description: Datasheet; ComponentLink2URL: https://www.we-online.com/catalog/datasheet/744778127.pdf; Mounting Technology: SMT; Operating Temperature: -40 to +125degC; Packaging: Tape and Reel; DC Resistance max.: 240mOhm; Inductance: 27uH; Rated Current: 1.27A; Size: 7332; Height: 3.2mm; Length: 7.3mm; Width: 7.3mm
footprint WE-PD_7332
pins: 1, 2

## 744778133
designator L?, comment 33uH, 1.22A
WE-PD SMT Power Inductor, size 7332, 33uH, 1.22A, 240mOhm; Manufacturer: Wurth Elektronik; Manufacturer Part Number: 744778133; Self Resonant Frequency: 16MHz; DC Resistance typ.: 153mOhm; Saturation Current: 1.15A; Type: Standard; ComponentLink1Description: Manufacturer; ComponentLink1URL: http://www.we-online.de; ComponentLink2Description: Datasheet; ComponentLink2URL: https://www.we-online.com/catalog/datasheet/744778133.pdf; Mounting Technology: SMT; Operating Temperature: -40 to +125degC; Packaging: Tape and Reel; DC Resistance max.: 240mOhm; Inductance: 33uH; Rated Current: 1.22A; Size: 7332; Height: 3.2mm; Length: 7.3mm; Width: 7.3mm
footprint WE-PD_7332
pins: 1, 2

## 744778139
designator L?, comment 39uH, 1.03A
WE-PD SMT Power Inductor, size 7332, 39uH, 1.03A, 320mOhm; Manufacturer: Wurth Elektronik; Manufacturer Part Number: 744778139; Self Resonant Frequency: 14MHz; DC Resistance typ.: 214mOhm; Saturation Current: 1.1A; Type: Standard; ComponentLink1Description: Manufacturer; ComponentLink1URL: http://www.we-online.de; ComponentLink2Description: Datasheet; ComponentLink2URL: https://www.we-online.com/catalog/datasheet/744778139.pdf; Mounting Technology: SMT; Operating Temperature: -40 to +125degC; Packaging: Tape and Reel; DC Resistance max.: 320mOhm; Inductance: 39uH; Rated Current: 1.03A; Size: 7332; Height: 3.2mm; Length: 7.3mm; Width: 7.3mm
footprint WE-PD_7332
pins: 1, 2

## 744778147
designator L?, comment 47uH, 0.85A
WE-PD SMT Power Inductor, size 7332, 47uH, 0.85A, 360mOhm; Manufacturer: Wurth Elektronik; Manufacturer Part Number: 744778147; Self Resonant Frequency: 13.5MHz; DC Resistance typ.: 315mOhm; Saturation Current: 1A; Type: Standard; ComponentLink1Description: Manufacturer; ComponentLink1URL: http://www.we-online.de; ComponentLink2Description: Datasheet; ComponentLink2URL: https://www.we-online.com/catalog/datasheet/744778147.pdf; Mounting Technology: SMT; Operating Temperature: -40 to +125degC; Packaging: Tape and Reel; DC Resistance max.: 360mOhm; Inductance: 47uH; Rated Current: 0.85A; Size: 7332; Height: 3.2mm; Length: 7.3mm; Width: 7.3mm
footprint WE-PD_7332
pins: 1, 2

## 744778156
designator L?, comment 56uH, 0.84A
WE-PD SMT Power Inductor, size 7332, 56uH, 0.84A, 470mOhm; Manufacturer: Wurth Elektronik; Manufacturer Part Number: 744778156; Self Resonant Frequency: 12.5MHz; DC Resistance typ.: 322mOhm; Saturation Current: 0.88A; Type: Standard; ComponentLink1Description: Manufacturer; ComponentLink1URL: http://www.we-online.de; ComponentLink2Description: Datasheet; ComponentLink2URL: https://www.we-online.com/catalog/datasheet/744778156.pdf; Mounting Technology: SMT; Operating Temperature: -40 to +125degC; Packaging: Tape and Reel; DC Resistance max.: 470mOhm; Inductance: 56uH; Rated Current: 0.84A; Size: 7332; Height: 3.2mm; Length: 7.3mm; Width: 7.3mm
footprint WE-PD_7332
pins: 1, 2

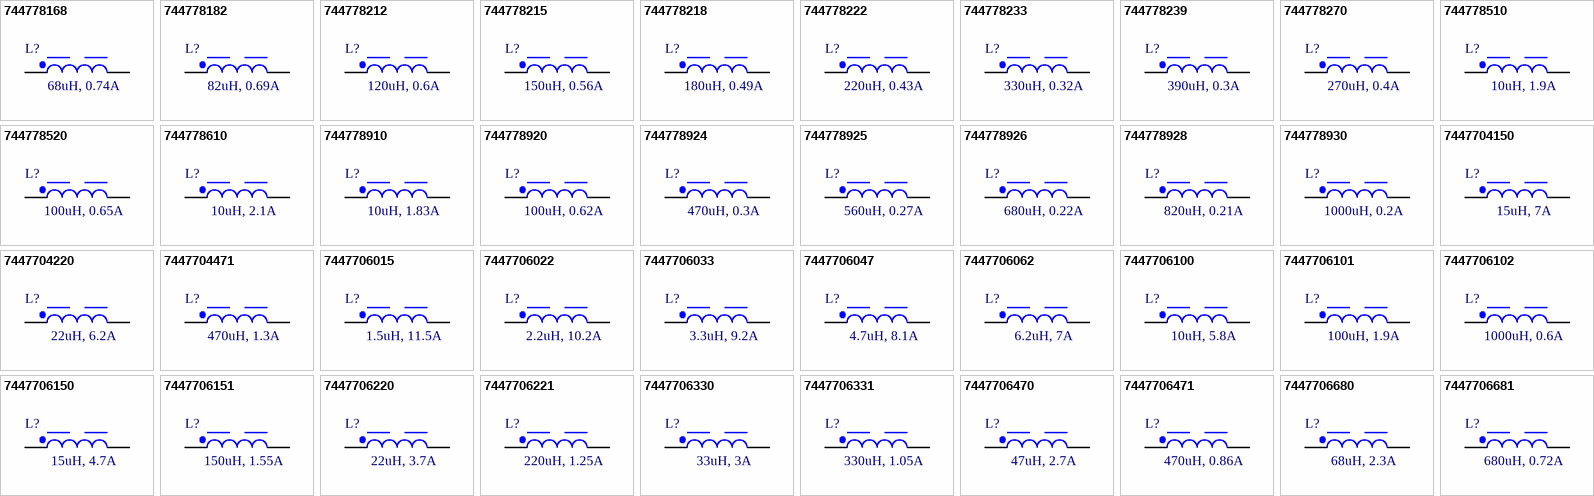
[diagram p3: symbols 744778168 to 7447706681]

## 744778168
designator L?, comment 68uH, 0.74A
WE-PD SMT Power Inductor, size 7332, 68uH, 0.74A, 520mOhm; Manufacturer: Wurth Elektronik; Manufacturer Part Number: 744778168; Self Resonant Frequency: 11.5MHz; DC Resistance typ.: 420mOhm; Saturation Current: 0.84A; Type: Standard; ComponentLink1Description: Manufacturer; ComponentLink1URL: http://www.we-online.de; ComponentLink2Description: Datasheet; ComponentLink2URL: https://www.we-online.com/catalog/datasheet/744778168.pdf; Mounting Technology: SMT; Operating Temperature: -40 to +125degC; Packaging: Tape and Reel; DC Resistance max.: 520mOhm; Inductance: 68uH; Rated Current: 0.74A; Size: 7332; Height: 3.2mm; Length: 7.3mm; Width: 7.3mm
footprint WE-PD_7332
pins: 1, 2

## 744778182
designator L?, comment 82uH, 0.69A
WE-PD SMT Power Inductor, size 7332, 82uH, 0.69A, 690mOhm; Manufacturer: Wurth Elektronik; Manufacturer Part Number: 744778182; Self Resonant Frequency: 9.8MHz; DC Resistance typ.: 480mOhm; Saturation Current: 0.78A; Type: Standard; ComponentLink1Description: Manufacturer; ComponentLink1URL: http://www.we-online.de; ComponentLink2Description: Datasheet; ComponentLink2URL: https://www.we-online.com/catalog/datasheet/744778182.pdf; Mounting Technology: SMT; Operating Temperature: -40 to +125degC; Packaging: Tape and Reel; DC Resistance max.: 690mOhm; Inductance: 82uH; Rated Current: 0.69A; Size: 7332; Height: 3.2mm; Length: 7.3mm; Width: 7.3mm
footprint WE-PD_7332
pins: 1, 2

## 744778212
designator L?, comment 120uH, 0.6A
WE-PD SMT Power Inductor, size 7332, 120uH, 0.6A, 890mOhm; Manufacturer: Wurth Elektronik; Manufacturer Part Number: 744778212; Self Resonant Frequency: 8.5MHz; DC Resistance typ.: 630mOhm; Saturation Current: 0.68A; Type: Standard; ComponentLink1Description: Manufacturer; ComponentLink1URL: http://www.we-online.de; ComponentLink2Description: Datasheet; ComponentLink2URL: https://www.we-online.com/catalog/datasheet/744778212.pdf; Mounting Technology: SMT; Operating Temperature: -40 to +125degC; Packaging: Tape and Reel; DC Resistance max.: 890mOhm; Inductance: 120uH; Rated Current: 0.6A; Size: 7332; Height: 3.2mm; Length: 7.3mm; Width: 7.3mm
footprint WE-PD_7332
pins: 1, 2

## 744778215
designator L?, comment 150uH, 0.56A
WE-PD SMT Power Inductor, size 7332, 150uH, 0.56A, 1270mOhm; Manufacturer: Wurth Elektronik; Manufacturer Part Number: 744778215; Self Resonant Frequency: 7.2MHz; DC Resistance typ.: 720mOhm; Saturation Current: 0.53A; Type: Standard; ComponentLink1Description: Manufacturer; ComponentLink1URL: http://www.we-online.de; ComponentLink2Description: Datasheet; ComponentLink2URL: https://www.we-online.com/catalog/datasheet/744778215.pdf; Mounting Technology: SMT; Operating Temperature: -40 to +125degC; Packaging: Tape and Reel; DC Resistance max.: 1270mOhm; Inductance: 150uH; Rated Current: 0.56A; Size: 7332; Height: 3.2mm; Length: 7.3mm; Width: 7.3mm
footprint WE-PD_7332
pins: 1, 2

## 744778218
designator L?, comment 180uH, 0.49A
WE-PD SMT Power Inductor, size 7332, 180uH, 0.49A, 1450mOhm; Manufacturer: Wurth Elektronik; Manufacturer Part Number: 744778218; Self Resonant Frequency: 7MHz; DC Resistance typ.: 960mOhm; Saturation Current: 0.5A; Type: Standard; ComponentLink1Description: Manufacturer; ComponentLink1URL: http://www.we-online.de; ComponentLink2Description: Datasheet; ComponentLink2URL: https://www.we-online.com/catalog/datasheet/744778218.pdf; Mounting Technology: SMT; Operating Temperature: -40 to +125degC; Packaging: Tape and Reel; DC Resistance max.: 1450mOhm; Inductance: 180uH; Rated Current: 0.49A; Size: 7332; Height: 3.2mm; Length: 7.3mm; Width: 7.3mm
footprint WE-PD_7332
pins: 1, 2

## 744778222
designator L?, comment 220uH, 0.43A
WE-PD SMT Power Inductor, size 7332, 220uH, 0.43A, 1650mOhm; Manufacturer: Wurth Elektronik; Manufacturer Part Number: 744778222; Self Resonant Frequency: 6MHz; DC Resistance typ.: 1220mOhm; Saturation Current: 0.42A; Type: Standard; ComponentLink1Description: Manufacturer; ComponentLink1URL: http://www.we-online.de; ComponentLink2Description: Datasheet; ComponentLink2URL: https://www.we-online.com/catalog/datasheet/744778222.pdf; Mounting Technology: SMT; Operating Temperature: -40 to +125degC; Packaging: Tape and Reel; DC Resistance max.: 1650mOhm; Inductance: 220uH; Rated Current: 0.43A; Size: 7332; Height: 3.2mm; Length: 7.3mm; Width: 7.3mm
footprint WE-PD_7332
pins: 1, 2

## 744778233
designator L?, comment 330uH, 0.32A
WE-PD SMT Power Inductor, size 7332, 330uH, 0.32A, 2620mOhm; Manufacturer: Wurth Elektronik; Manufacturer Part Number: 744778233; Self Resonant Frequency: 4.8MHz; DC Resistance typ.: 2280mOhm; Saturation Current: 0.35A; Type: Standard; ComponentLink1Description: Manufacturer; ComponentLink1URL: http://www.we-online.de; ComponentLink2Description: Datasheet; ComponentLink2URL: https://www.we-online.com/catalog/datasheet/744778233.pdf; Mounting Technology: SMT; Operating Temperature: -40 to +125degC; Packaging: Tape and Reel; DC Resistance max.: 2620mOhm; Inductance: 330uH; Rated Current: 0.32A; Size: 7332; Height: 3.2mm; Length: 7.3mm; Width: 7.3mm
footprint WE-PD_7332
pins: 1, 2

## 744778239
designator L?, comment 390uH, 0.3A
WE-PD SMT Power Inductor, size 7332, 390uH, 0.3A, 2940mOhm; Manufacturer: Wurth Elektronik; Manufacturer Part Number: 744778239; Self Resonant Frequency: 4.4MHz; DC Resistance typ.: 2490mOhm; Saturation Current: 0.34A; Type: Standard; ComponentLink1Description: Manufacturer; ComponentLink1URL: http://www.we-online.de; ComponentLink2Description: Datasheet; ComponentLink2URL: https://www.we-online.com/catalog/datasheet/744778239.pdf; Mounting Technology: SMT; Operating Temperature: -40 to +125degC; Packaging: Tape and Reel; DC Resistance max.: 2940mOhm; Inductance: 390uH; Rated Current: 0.3A; Size: 7332; Height: 3.2mm; Length: 7.3mm; Width: 7.3mm
footprint WE-PD_7332
pins: 1, 2

## 744778270
designator L?, comment 270uH, 0.4A
WE-PD SMT Power Inductor, size 7332, 270uH, 0.4A, 2310mOhm; Manufacturer: Wurth Elektronik; Manufacturer Part Number: 744778270; Self Resonant Frequency: 5.2MHz; DC Resistance typ.: 1440mOhm; Saturation Current: 0.39A; Type: Standard; ComponentLink1Description: Manufacturer; ComponentLink1URL: http://www.we-online.de; ComponentLink2Description: Datasheet; ComponentLink2URL: https://www.we-online.com/catalog/datasheet/744778270.pdf; Mounting Technology: SMT; Operating Temperature: -40 to +125degC; Packaging: Tape and Reel; DC Resistance max.: 2310mOhm; Inductance: 270uH; Rated Current: 0.4A; Size: 7332; Height: 3.2mm; Length: 7.3mm; Width: 7.3mm
footprint WE-PD_7332
pins: 1, 2

## 744778510
designator L?, comment 10uH, 1.9A
WE-PD SMT Power Inductor, size 6033R, 10uH, 1.9A, 125mOhm; Manufacturer: Wurth Elektronik; Manufacturer Part Number: 744778510; Self Resonant Frequency: 37MHz; DC Resistance typ.: 100mOhm; Saturation Current: 1.6A; Type: Robust; ComponentLink1Description: Manufacturer; ComponentLink1URL: http://www.we-online.de; ComponentLink2Description: Datasheet; ComponentLink2URL: https://www.we-online.com/catalog/datasheet/744778510.pdf; Mounting Technology: SMT; Operating Temperature: -40 to +125degC; Packaging: Tape and Reel; DC Resistance max.: 125mOhm; Inductance: 10uH; Rated Current: 1.9A; Size: 6033R; Height: 3.3mm; Length: 5.9mm; Width: 6.2mm
footprint WE-PD_6033R
pins: 1, 2

## 744778520
designator L?, comment 100uH, 0.65A
WE-PD SMT Power Inductor, size 6033R, 100uH, 0.65A, 1060mOhm; Manufacturer: Wurth Elektronik; Manufacturer Part Number: 744778520; Self Resonant Frequency: 11MHz; DC Resistance typ.: 950mOhm; Saturation Current: 0.5A; Type: Robust; ComponentLink1Description: Manufacturer; ComponentLink1URL: http://www.we-online.de; ComponentLink2Description: Datasheet; ComponentLink2URL: https://www.we-online.com/catalog/datasheet/744778520.pdf; Mounting Technology: SMT; Operating Temperature: -40 to +125degC; Packaging: Tape and Reel; DC Resistance max.: 1060mOhm; Inductance: 100uH; Rated Current: 0.65A; Size: 6033R; Height: 3.3mm; Length: 5.9mm; Width: 6.2mm
footprint WE-PD_6033R
pins: 1, 2

## 744778610
designator L?, comment 10uH, 2.1A
WE-PD SMT Power Inductor, size 6050R, 10uH, 2.1A, 88mOhm; Manufacturer: Wurth Elektronik; Manufacturer Part Number: 744778610; Self Resonant Frequency: 35MHz; DC Resistance typ.: 74mOhm; Saturation Current: 1.8A; Type: Robust; ComponentLink1Description: Manufacturer; ComponentLink1URL: http://www.we-online.de; ComponentLink2Description: Datasheet; ComponentLink2URL: https://www.we-online.com/catalog/datasheet/744778610.pdf; Mounting Technology: SMT; Operating Temperature: -40 to +125degC; Packaging: Tape and Reel; DC Resistance max.: 88mOhm; Inductance: 10uH; Rated Current: 2.1A; Size: 6050R; Height: 5.1mm; Length: 5.9mm; Width: 6.2mm
footprint WE-PD_6050R
pins: 1, 2

## 744778910
designator L?, comment 10uH, 1.83A
WE-PD SMT Power Inductor, size 7332R, 10uH, 1.83A, 72mOhm; Manufacturer: Wurth Elektronik; Manufacturer Part Number: 744778910; Self Resonant Frequency: 32MHz; DC Resistance typ.: 64mOhm; Saturation Current: 2.2A; Type: Robust; ComponentLink1Description: Manufacturer; ComponentLink1URL: http://www.we-online.de; ComponentLink2Description: Datasheet; ComponentLink2URL: https://www.we-online.com/catalog/datasheet/744778910.pdf; Mounting Technology: SMT; Operating Temperature: -40 to +125degC; Packaging: Tape and Reel; DC Resistance max.: 72mOhm; Inductance: 10uH; Rated Current: 1.83A; Size: 7332R; Height: 3.2mm; Length: 7.3mm; Width: 7.3mm
footprint WE-PD_7332R
pins: 1, 2

## 744778920
designator L?, comment 100uH, 0.62A
WE-PD SMT Power Inductor, size 7332R, 100uH, 0.62A, 790mOhm; Manufacturer: Wurth Elektronik; Manufacturer Part Number: 744778920; Self Resonant Frequency: 9MHz; DC Resistance typ.: 585mOhm; Saturation Current: 0.76A; Type: Robust; ComponentLink1Description: Manufacturer; ComponentLink1URL: http://www.we-online.de; ComponentLink2Description: Datasheet; ComponentLink2URL: https://www.we-online.com/catalog/datasheet/744778920.pdf; Mounting Technology: SMT; Operating Temperature: -40 to +125degC; Packaging: Tape and Reel; DC Resistance max.: 790mOhm; Inductance: 100uH; Rated Current: 0.62A; Size: 7332R; Height: 3.2mm; Length: 7.3mm; Width: 7.3mm
footprint WE-PD_7332R
pins: 1, 2

## 744778924
designator L?, comment 470uH, 0.3A
WE-PD SMT Power Inductor, size 7332R, 470uH, 0.3A, 4180mOhm; Manufacturer: Wurth Elektronik; Manufacturer Part Number: 744778924; Self Resonant Frequency: 4MHz; DC Resistance typ.: 2600mOhm; Saturation Current: 0.31A; Type: Robust; ComponentLink1Description: Manufacturer; ComponentLink1URL: http://www.we-online.de; ComponentLink2Description: Datasheet; ComponentLink2URL: https://www.we-online.com/catalog/datasheet/744778924.pdf; Mounting Technology: SMT; Operating Temperature: -40 to +125degC; Packaging: Tape and Reel; DC Resistance max.: 4180mOhm; Inductance: 470uH; Rated Current: 0.3A; Size: 7332R; Height: 3.2mm; Length: 7.3mm; Width: 7.3mm
footprint WE-PD_7332R
pins: 1, 2

## 744778925
designator L?, comment 560uH, 0.27A
WE-PD SMT Power Inductor, size 7332R, 560uH, 0.27A, 4670mOhm; Manufacturer: Wurth Elektronik; Manufacturer Part Number: 744778925; Self Resonant Frequency: 3.7MHz; DC Resistance typ.: 3000mOhm; Saturation Current: 0.3A; Type: Robust; ComponentLink1Description: Manufacturer; ComponentLink1URL: http://www.we-online.de; ComponentLink2Description: Datasheet; ComponentLink2URL: https://www.we-online.com/catalog/datasheet/744778925.pdf; Mounting Technology: SMT; Operating Temperature: -40 to +125degC; Packaging: Tape and Reel; DC Resistance max.: 4670mOhm; Inductance: 560uH; Rated Current: 0.27A; Size: 7332R; Height: 3.2mm; Length: 7.3mm; Width: 7.3mm
footprint WE-PD_7332R
pins: 1, 2